# Altium schematic symbol library TPS73730.SchLib: 1 symbol
Pins are listed as number, name and electrical type; pins without a type are passive.

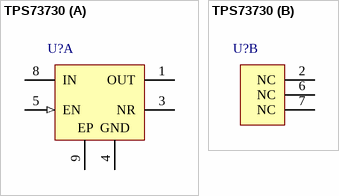
[diagram p0: symbol TPS73730]

## TPS73730
designator U?
part A pins: 1 OUT (power) "Output of the regulator. A small capacitor (total typical capacitance >= 2.0 uF ceramic) is needed from this pin to ground to assure stability.", 3 NR "Fixed voltage versions only; connecting an external capacitor to this pin bypasses noise generated by the internal bandgap. This allows output noise to be reduced to very low levels.", 4 GND (power) "Ground. The pad must be tied to GND.", 5 EN (in) "Driving the enable pin (EN) high turns on the regulator. Driving this pin low puts the regulator into shutdownmode .EN can be connected to IN if not used.", 8 IN (power) "Input supply.", 9 EP (power) "The pad must be tied to GND."
part B pins: 2 NC "Not internally connected. This pin must either be left open, or tied to GND.", 6 NC "Not internally connected. This pin must either be left open, or tied to GND.", 7 NC "Not internally connected. This pin must either be left open, or tied to GND."